# Altium schematic symbol library Librarry.SchLib: 14 symbols
Pins are listed as number, name and electrical type; pins without a type are passive.

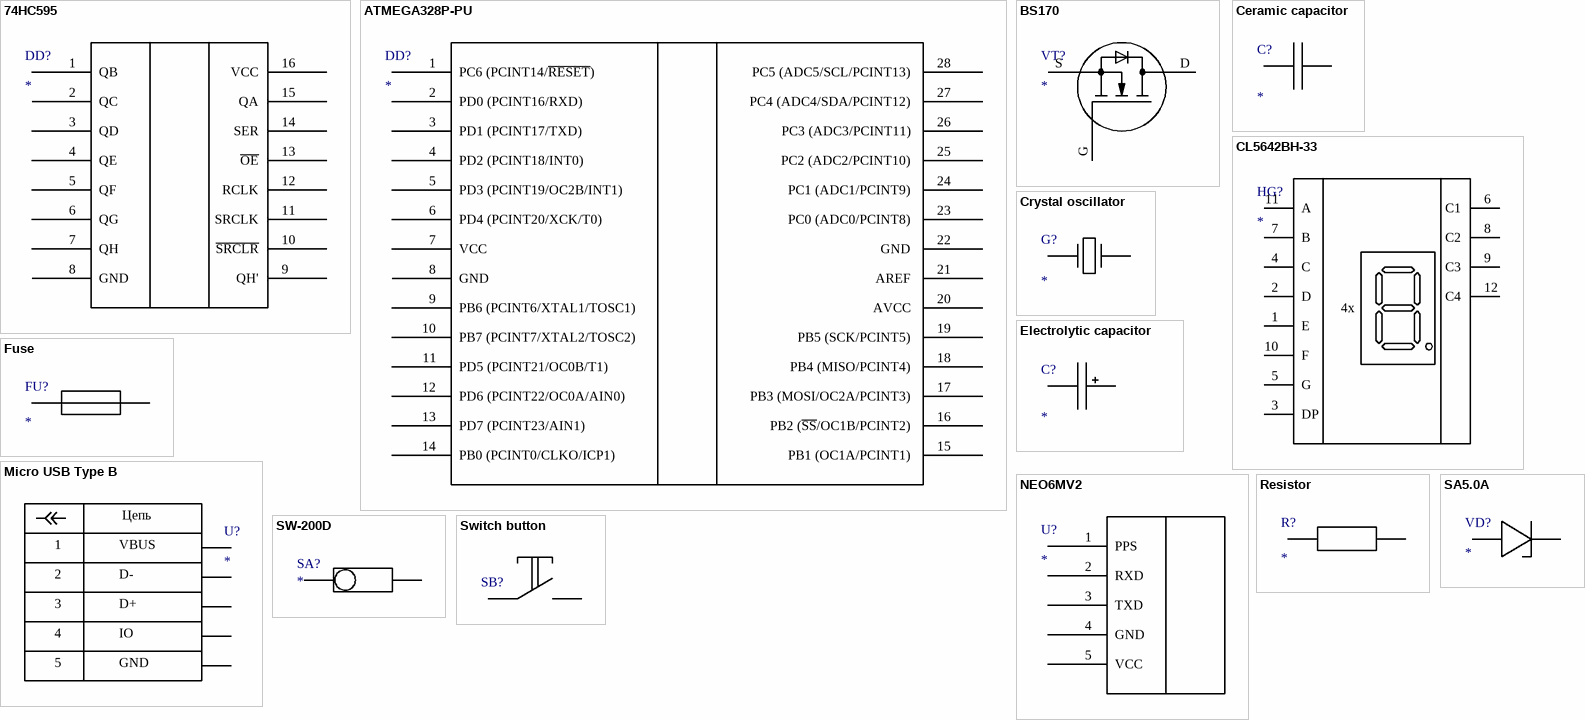
[diagram p0: symbols 74HC595 to Switch button]

## 74HC595
designator DD?
pins: 1 QB, 2 QC, 3 QD, 4 QE, 5 QF, 6 QG, 7 QH, 8 GND, 9 QH', 10 ~{SRCLR}, 11 SRCLK, 12 RCLK, 13 ~{OE}, 14 SER, 15 QA, 16 VCC
1 alternate drawing of the same symbol

## ATMEGA328P-PU
designator DD?
pins: 1 PC6 (PCINT14/~{RESET}) , 2 PD0 (PCINT16/RXD), 3 PD1 (PCINT17/TXD), 4 PD2 (PCINT18/INT0), 5 PD3 (PCINT19/OC2B/INT1), 6 PD4 (PCINT20/XCK/T0), 7 VCC , 8 GND, 9 PB6 (PCINT6/XTAL1/TOSC1), 10 PB7 (PCINT7/XTAL2/TOSC2), 11 PD5 (PCINT21/OC0B/T1), 12 PD6 (PCINT22/OC0A/AIN0), 13 PD7 (PCINT23/AIN1), 14 PB0 (PCINT0/CLKO/ICP1), 15 PB1 (OC1A/PCINT1) , 16 PB2 (~{SS}/OC1B/PCINT2) , 17 PB3 (MOSI/OC2A/PCINT3) , 18 PB4 (MISO/PCINT4) , 19 PB5 (SCK/PCINT5) , 20 AVCC , 21 AREF , 22 GND , 23 PC0 (ADC0/PCINT8) , 24 PC1 (ADC1/PCINT9) , 25 PC2 (ADC2/PCINT10) , 26 PC3 (ADC3/PCINT11) , 27 PC4 (ADC4/SDA/PCINT12) , 28 PC5 (ADC5/SCL/PCINT13) 

## BS170
designator VT?
pins: D 2, G 3, S 1

## Ceramic capacitor
designator C?
Value: *
pins: 19, 20

## CL5642BH-33
designator HG?
pins: 1 E, 2 D, 3 DP, 4 C, 5 G, 6 C1, 7 B, 8 C2, 9 C3, 10 F, 11 A, 12 C4
1 alternate drawing of the same symbol
text: 4x

## Crystal oscillator
designator G?
Value: *
pins: 6, 7

## Electrolytic capacitor
designator C?
Value: *
pins: 19, 20

## Fuse
designator FU?
Value: *
pins: 2, 3

## Micro USB Type B
designator U?
pins: 1 VBUS, 2 D-, 3 D+, 4 IO, 5 GND
text: Цепь

## NEO6MV2
designator U?
pins: 1 PPS, 2 RXD, 3 TXD, 4 GND, 5 VCC

## Resistor
designator R?
Value: *
pins: 2, 3

## SA5.0A
designator VD?
pins: 8, 9

## SW-200D
designator SA?
pins: 1, 2

## Switch button
designator SB?  (value not drawn)
pins: 17, 18